# Altium footprint library SpectrumComponents.PcbLib: 18 footprints (part 2 of 2)
Each footprint in its own frame and in the unit in brackets; x right, y up, seen from the top. Pads: shape width x height; smd on the part's side, far side on the other; paste and mask are expansions set on the pad; w line width, h text height; cw(c..) or ccw(c..) is an arc to the next point about the centre after c.
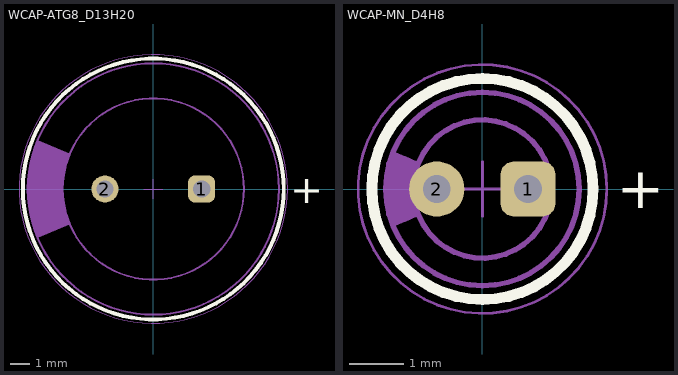
[diagram p1: the footprints below, top view; thin cyan lines are the x and y axes]

## WCAP-ATG8_D13H20 [mm] "Aluminum Electrolytic Capacitors, 13x20mm"
height 20
pads (2):
  rrect50% 1.4x1.4 hole 0.9: 1(2.5,0)
  round 1.4 hole 0.9: 2(-2.5,0)
Top Overlay:
  circle w0.2: c0,0 r6.75
  text "+" at 7.075,-0.737 h1.5
Top Courtyard:
  circle w0.05: c0,0 r6.95
  lines w0.05: -0.5,0 0.5,0 ; 0,-0.5 0,0.5
Top 3D Body:
  circle w0.1: c0,0 r6.5
  circle w0.1: c0,0 r4.69
  region: -5.99,-2.525 -6.116,-2.226 -6.307,-1.606 -6.435,-0.97 -6.5,-0.324 -6.5,0.324 -6.435,0.97 -6.307,1.606 -6.116,2.226 -5.99,2.525 -4.32,1.826 -4.321,1.824 -4.406,1.606 -4.545,1.159 -4.637,0.7 -4.684,0.234 -4.684,-0.234 -4.637,-0.7 -4.545,-1.159 -4.406,-1.606 -4.321,-1.824 -4.32,-1.826
Top Component Outline:
  circle w0.1: c0,0 r6.5
  circle w0.1: c0,0 r4.69
  region: -5.99,-2.525 -6.116,-2.226 -6.307,-1.606 -6.435,-0.97 -6.5,-0.324 -6.5,0.324 -6.435,0.97 -6.307,1.606 -6.116,2.226 -5.99,2.525 -4.32,1.826 -4.321,1.824 -4.406,1.606 -4.545,1.159 -4.637,0.7 -4.684,0.234 -4.684,-0.234 -4.637,-0.7 -4.545,-1.159 -4.406,-1.606 -4.321,-1.824 -4.32,-1.826
3D body "13x20x5x0.6.stp": height 20.31, standoff -19.91, extent -6.49,-6.5 6.5,6.5

## WCAP-MN_D4H8 [mil] "Aluminum Electrolytic Capacitors, 5x11mm"
height 433.07
pads (2):
  rrect50% 40x40 hole 20: 1(33,0)
  round 40 hole 20: 2(-33,0)
Top Overlay:
  circle w7.87: c0,0 r80
  text "+" at 97,-14 h30
Top Courtyard:
  circle w1.97: c0,0 r90
  lines w1.97: -19.68,0 19.68,0 ; 0,-19.68 0,19.68
Top 3D Body:
  circle w3.94: c0,0 r70
  circle w3.94: c0,0 r50
  region: -56,-23.58 -47,-19.81 -48.73,-15.03 -50.74,-5.08 -50.74,5.08 -48.73,15.03 -47,19.81 -56,23.58 -58.35,17.98 -60.75,6.07 -60.75,-6.07 -58.35,-17.98
Top Component Outline:
  circle w3.94: c0,0 r70
  circle w3.94: c0,0 r50
  region: -63,-26.51 -47,-19.81 -48.73,-15.03 -50.74,-5.08 -50.74,5.08 -48.73,15.03 -47,19.81 -63,26.51 -65.64,20.21 -68.34,6.83 -68.34,-6.83 -65.64,-20.21
3D body: height 300, standoff 0, extent -75,-75 75,75